# Altium footprint library KiCad Symbols.PcbLib: 6 footprints
Each footprint in its own frame and in the unit in brackets; x right, y up, seen from the top. Pads: shape width x height; smd on the part's side, far side on the other; paste and mask are expansions set on the pad; w line width, h text height; cw(c..) or ccw(c..) is an arc to the next point about the centre after c.
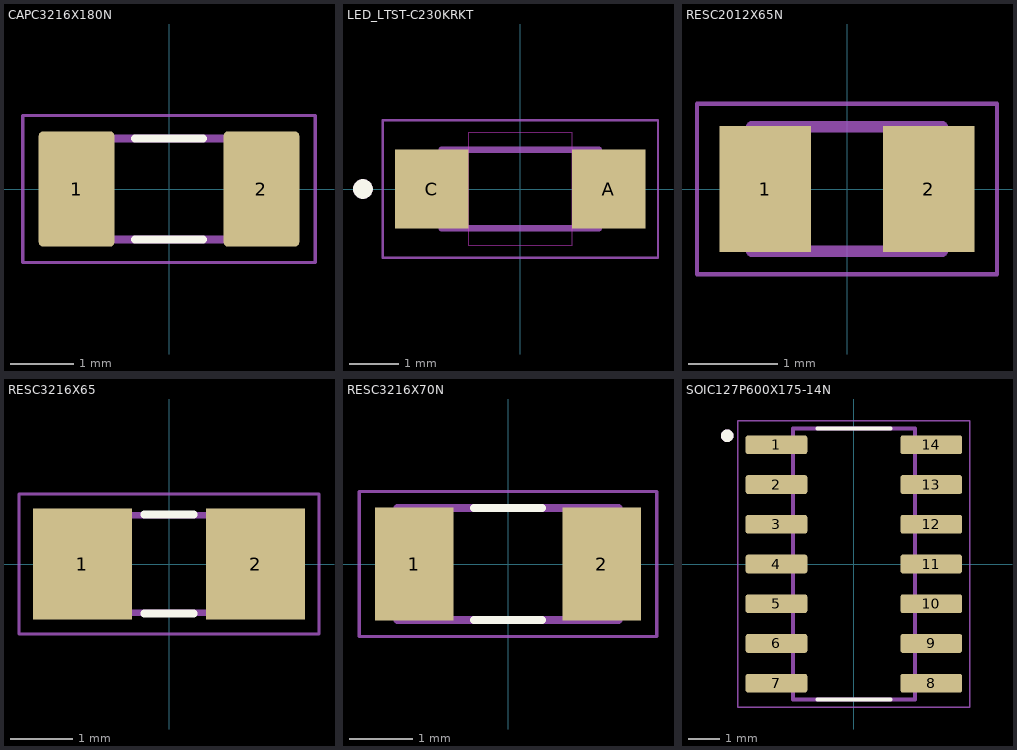
[diagram p0: the footprints below, top view; thin cyan lines are the x and y axes]

## CAPC3216X180N [mm]
pads (2):
  rrect12% 1.2x1.82 smd: 1(-1.46,0) 2(1.46,0)
F.SilkS:
  lines w0.127: -0.54,-0.8 0.54,-0.8 ; -0.54,0.8 0.54,0.8
F.CrtYd:
  lines w0.05: -2.31,-1.16 2.31,-1.16 2.31,1.16 -2.31,1.16 -2.31,-1.16
F.Fab:
  lines w0.127: -1.6,-0.8 1.6,-0.8 1.6,0.8 -1.6,0.8 -1.6,-0.8

## LED_LTST-C230KRKT [mm]
pads (2):
  rect 1.5x1.6 smd: A(1.8,0) C(-1.8,0)
F.SilkS:
  circle w0.2: c-3.2,0 r0.1
Edge.Cuts:
  lines w0.01: -1.05,-1.15 1.05,-1.15 1.05,1.15 -1.05,1.15 -1.05,-1.15
F.CrtYd:
  lines w0.05: -2.8,-1.4 2.8,-1.4 2.8,1.4 -2.8,1.4 -2.8,-1.4
F.Fab:
  circle w0.2: c-3.2,0 r0.1
  lines w0.127: -1.6,-0.8 -1.6,0.8 1.6,0.8 1.6,-0.8 -1.6,-0.8

## RESC2012X65N [mm]
pads (2):
  rect 1.03x1.42 smd: 1(-0.92,0) 2(0.92,0)
F.CrtYd:
  lines w0.05: -1.685,-0.96 1.685,-0.96 1.685,0.96 -1.685,0.96 -1.685,-0.96
F.Fab:
  lines w0.127: -1.07,-0.7 1.07,-0.7 1.07,0.7 -1.07,0.7 -1.07,-0.7

## RESC3216X65 [mm]
pads (2):
  rect 1.6x1.8 smd: 1(-1.4,0) 2(1.4,0)
F.SilkS:
  lines w0.127: -0.4,-0.8 0.4,-0.8 ; -0.4,0.8 0.4,0.8
F.CrtYd:
  lines w0.051: -2.423,-1.133 2.423,-1.133 2.423,1.133 -2.423,1.133 -2.423,-1.133
F.Fab:
  lines w0.102: -0.965,-0.787 0.965,-0.787 ; -0.965,0.787 0.965,0.787

## RESC3216X70N [mm]
pads (2):
  rect 1.23x1.77 smd: 1(-1.466,0) 2(1.466,0)
F.SilkS:
  lines w0.127: -0.53,-0.88 0.53,-0.88 ; -0.53,0.88 0.53,0.88
F.CrtYd:
  lines w0.05: -2.331,-1.135 2.331,-1.135 2.331,1.135 -2.331,1.135 -2.331,-1.135
F.Fab:
  lines w0.127: -1.73,-0.88 1.73,-0.88 1.73,0.88 -1.73,0.88 -1.73,-0.88

## SOIC127P600X175-14N [mm]
pads (14):
  rrect25% 1.97x0.6 smd: 1(-2.475,3.81) 2(-2.475,2.54) 3(-2.475,1.27) 4(-2.475,0) 5(-2.475,-1.27) 6(-2.475,-2.54) 7(-2.475,-3.81) 8(2.475,-3.81) 9(2.475,-2.54) 10(2.475,-1.27) 11(2.475,0) 12(2.475,1.27) 13(2.475,2.54) 14(2.475,3.81)
F.SilkS:
  circle w0.2: c-4.05,4.1 r0.1
  lines w0.127: -1.17,-4.325 1.17,-4.325 ; -1.17,4.325 1.17,4.325
F.CrtYd:
  lines w0.05: -3.71,-4.575 3.71,-4.575 3.71,4.575 -3.71,4.575 -3.71,-4.575
F.Fab:
  circle w0.2: c-4.05,4.1 r0.1
  lines w0.127: -1.95,-4.325 1.95,-4.325 1.95,4.325 -1.95,4.325 -1.95,-4.325